# EAGLE library part TXB0108 (library veter)
TXB0108 - Breakout Level shifter from: http://www.adafruit.com/products/395
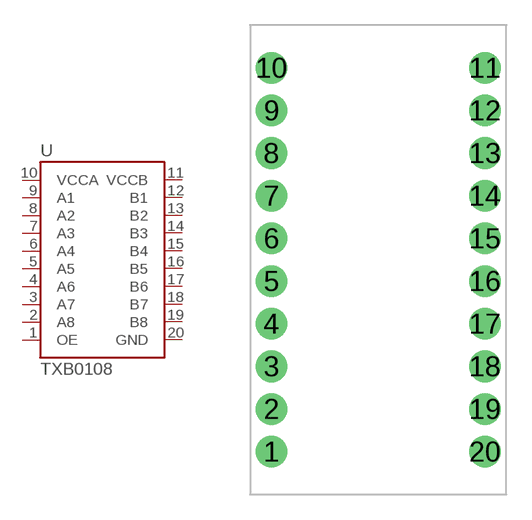
[diagram p3: symbol with the pads of TXB0108-BREAKOUT; footprint TXB0108-BREAKOUT]

Designator prefix -

## TXB0108  [TXB0108-BREAKOUT]
1  OE  in
2  A8  in
3  A7  in
4  A6  in
5  A5  in
6  A4  in
7  A3  in
8  A2
9  A1  in
10  VCCA  pwr
11  VCCB  pwr
12  B1  out
13  B2  out
14  B3  out
15  B4  out
16  B5  out
17  B6  out
18  B7  out
19  B8  out
20  GND  pwr

## Footprint TXB0108-BREAKOUT (pad centres in mm)
TXB0108 - BREAKOUT
drill 1.016 pad 1.88: 1 -6.35,-11.43; 2 -6.35,-8.89; 3 -6.35,-6.35; 4 -6.35,-3.81; 5 -6.35,-1.27; 6 -6.35,1.27; 7 -6.35,3.81; 8 -6.35,6.35; 9 -6.35,8.89; 10 -6.35,11.43; 11 6.35,11.43; 12 6.35,8.89; 13 6.35,6.35; 14 6.35,3.81; 15 6.35,1.27; 16 6.35,-1.27; 17 6.35,-3.81; 18 6.35,-6.35; 19 6.35,-8.89; 20 6.35,-11.43